# EAGLE library part AVBUS_CONNECTOR_140-2 (library avnet-1)
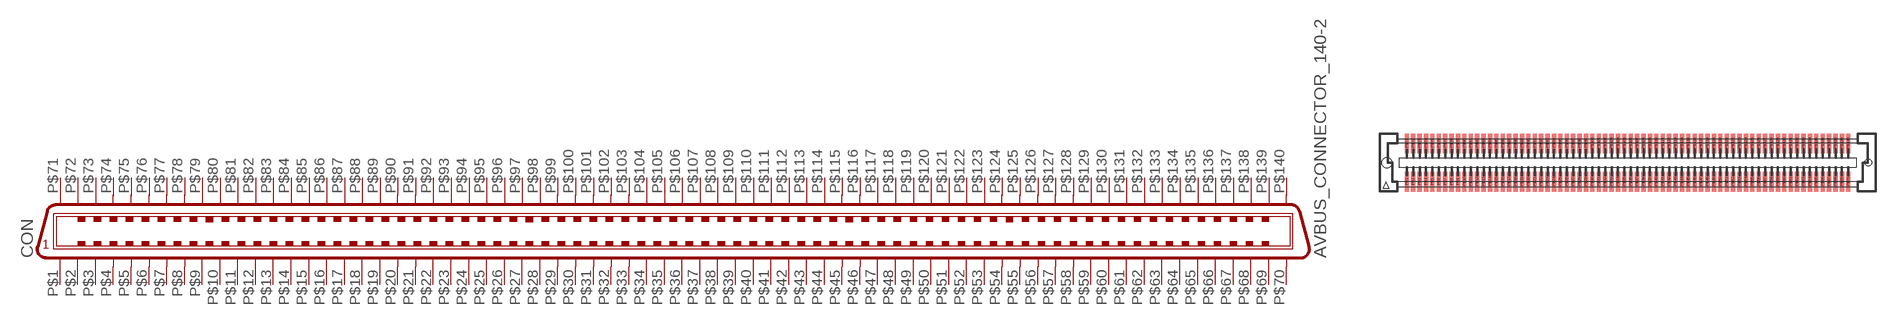
[diagram p0: symbol with the pads of 140-FH0.8; footprint 140-FH0.8]

Designator prefix CON

## AVBUS_CONNECTOR_140-2  [140-FH0.8]
P$1  1  pas
P$2  2  pas
P$3  3  pas
P$4  4  pas
P$5  5  pas
P$6  6  pas
P$7  7  pas
P$8  8  pas
P$9  9  pas
P$10  10  pas
P$11  11  pas
P$12  12  pas
P$13  13  pas
P$14  14  pas
P$15  15  pas
P$16  16  pas
P$17  17  pas
P$18  18  pas
P$19  19  pas
P$20  20  pas
P$21  21  pas
P$22  22  pas
P$23  23  pas
P$24  24  pas
P$25  25  pas
P$26  26  pas
P$27  27  pas
P$28  28  pas
P$29  29  pas
P$30  30  pas
P$31  31  pas
P$32  32  pas
P$33  33  pas
P$34  34  pas
P$35  35  pas
P$36  36  pas
P$37  37  pas
P$38  38  pas
P$39  39  pas
P$40  40  pas
P$41  41  pas
P$42  42  pas
P$43  43  pas
P$44  44  pas
P$45  45  pas
P$46  46  pas
P$47  47  pas
P$48  48  pas
P$49  49  pas
P$50  50  pas
P$51  51  pas
P$52  52  pas
P$53  53  pas
P$54  54  pas
P$55  55  pas
P$56  56  pas
P$57  57  pas
P$58  58  pas
P$59  59  pas
P$60  60  pas
P$61  61  pas
P$62  62  pas
P$63  63  pas
P$64  64  pas
P$65  65  pas
P$66  66  pas
P$67  67  pas
P$68  68  pas
P$69  69  pas
P$70  70  pas
P$71  71  pas
P$72  72  pas
P$73  73  pas
P$74  74  pas
P$75  75  pas
P$76  76  pas
P$77  77  pas
P$78  78  pas
P$79  79  pas
P$80  80  pas
P$81  81  pas
P$82  82  pas
P$83  83  pas
P$84  84  pas
P$85  85  pas
P$86  86  pas
P$87  87  pas
P$88  88  pas
P$89  89  pas
P$90  90  pas
P$91  91  pas
P$92  92  pas
P$93  93  pas
P$94  94  pas
P$95  95  pas
P$96  96  pas
P$97  97  pas
P$98  98  pas
P$99  99  pas
P$100  100  pas
P$101  101  pas
P$102  102  pas
P$103  103  pas
P$104  104  pas
P$105  105  pas
P$106  106  pas
P$107  107  pas
P$108  108  pas
P$109  109  pas
P$110  110  pas
P$111  111  pas
P$112  112  pas
P$113  113  pas
P$114  114  pas
P$115  115  pas
P$116  116  pas
P$117  117  pas
P$118  118  pas
P$119  119  pas
P$120  120  pas
P$121  121  pas
P$122  122  pas
P$123  123  pas
P$124  124  pas
P$125  125  pas
P$126  126  pas
P$127  127  pas
P$128  128  pas
P$129  129  pas
P$130  130  pas
P$131  131  pas
P$132  132  pas
P$133  133  pas
P$134  134  pas
P$135  135  pas
P$136  136  pas
P$137  137  pas
P$138  138  pas
P$139  139  pas
P$140  140  pas

## Footprint 140-FH0.8 (pad centres in mm)
smd 0.53 x 2.45: P$1 -26.8,-2.4; P$2 -26,-2.4; P$3 -25.2,-2.4; P$4 -24.4,-2.4; P$5 -23.6,-2.4; P$6 -22.8,-2.4; P$7 -22,-2.4; P$8 -21.2,-2.4; P$9 -20.4,-2.4; P$10 -19.6,-2.4; P$11 -18.8,-2.4; P$12 -18,-2.4; P$13 -17.2,-2.4; P$14 -16.4,-2.4; P$15 -15.6,-2.4; P$16 -14.8,-2.4; P$17 -14,-2.4; P$18 -13.2,-2.4; P$19 -12.4,-2.4; P$20 -11.6,-2.4; P$21 -10.8,-2.4; P$22 -10,-2.4; P$23 -9.2,-2.4; P$24 -8.4,-2.4; P$25 -7.6,-2.4; P$26 -6.8,-2.4; P$27 -6,-2.4; P$28 -5.2,-2.4; P$29 -4.4,-2.4; P$30 -3.6,-2.4; P$31 -2.8,-2.4; P$32 -2,-2.4; P$33 -1.2,-2.4; P$34 -0.4,-2.4; P$35 0.4,-2.4; P$36 1.2,-2.4; P$37 2,-2.4; P$38 2.8,-2.4; P$39 3.6,-2.4; P$40 4.4,-2.4; P$41 5.2,-2.4; P$42 6,-2.4; P$43 6.8,-2.4; P$44 7.6,-2.4; P$45 8.4,-2.4; P$46 9.2,-2.4; P$47 10,-2.4; P$48 10.8,-2.4; P$49 11.6,-2.4; P$50 12.4,-2.4; P$51 13.2,-2.4; P$52 14,-2.4; P$53 14.8,-2.4; P$54 15.6,-2.4; P$55 16.4,-2.4; P$56 17.2,-2.4; P$57 18,-2.4; P$58 18.8,-2.4; P$59 19.6,-2.4; P$60 20.4,-2.4; P$61 21.2,-2.4; P$62 22,-2.4; P$63 22.8,-2.4; P$64 23.6,-2.4; P$65 24.4,-2.4; P$66 25.2,-2.4; P$67 26,-2.4; P$68 26.8,-2.4; P$69 27.6,-2.4; P$70 28.4,-2.4; P$71 -26.8,2.4; P$72 -26,2.4; P$73 -25.2,2.4; P$74 -24.4,2.4; P$75 -23.6,2.4; P$76 -22.8,2.4; P$77 -22,2.4; P$78 -21.2,2.4; P$79 -20.4,2.4; P$80 -19.6,2.4; P$81 -18.8,2.4; P$82 -18,2.4; P$83 -17.2,2.4; P$84 -16.4,2.4; P$85 -15.6,2.4; P$86 -14.8,2.4; P$87 -14,2.4; P$88 -13.2,2.4; P$89 -12.4,2.4; P$90 -11.6,2.4; P$91 -10.8,2.4; P$92 -10,2.4; P$93 -9.2,2.4; P$94 -8.4,2.4; P$95 -7.6,2.4; P$96 -6.8,2.4; P$97 -6,2.4; P$98 -5.2,2.4; P$99 -4.4,2.4; P$100 -3.6,2.4; P$101 -2.8,2.4; P$102 -2,2.4; P$103 -1.2,2.4; P$104 -0.4,2.4; P$105 0.4,2.4; P$106 1.2,2.4; P$107 2,2.4; P$108 2.8,2.4; P$109 3.6,2.4; P$110 4.4,2.4; P$111 5.2,2.4; P$112 6,2.4; P$113 6.8,2.4; P$114 7.6,2.4; P$115 8.4,2.4; P$116 9.2,2.4; P$117 10,2.4; P$118 10.8,2.4; P$119 11.6,2.4; P$120 12.4,2.4; P$121 13.2,2.4; P$122 14,2.4; P$123 14.8,2.4; P$124 15.6,2.4; P$125 16.4,2.4; P$126 17.2,2.4; P$127 18,2.4; P$128 18.8,2.4; P$129 19.6,2.4; P$130 20.4,2.4; P$131 21.2,2.4; P$132 22,2.4; P$133 22.8,2.4; P$134 23.6,2.4; P$135 24.4,2.4; P$136 25.2,2.4; P$137 26,2.4; P$138 26.8,2.4; P$139 27.6,2.4; P$140 28.4,2.4
hole 0.85 at 30.9,0
hole 1.25 at -29.3,0